# Altium footprint library BitCoin.PcbLib: 3 footprints
Each footprint in its own frame and in the unit in brackets; x right, y up, seen from the top. Pads: shape width x height; smd on the part's side, far side on the other; paste and mask are expansions set on the pad; w line width, h text height; cw(c..) or ccw(c..) is an arc to the next point about the centre after c.
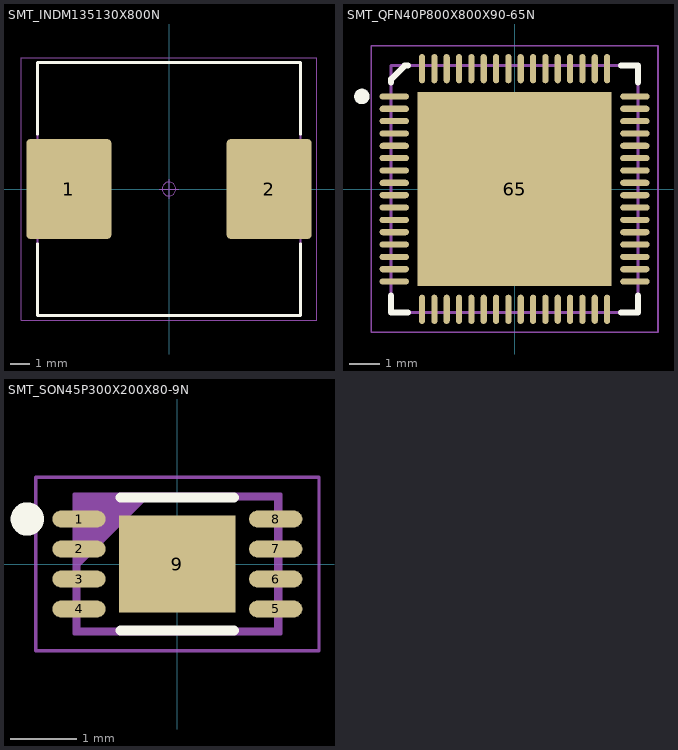
[diagram p0: the footprints below, top view; thin cyan lines are the x and y axes]

## SMT_INDM135130X800N [mm]
height 8
pads (2):
  rrect9% 4.35x5.1 smd mask+0.075: 1(-5.125,0) 2(5.125,0)
Top Overlay:
  lines w0.15: -6.725,-2.8 -6.725,-6.475 6.725,-6.475 6.725,-2.8 ; -6.725,2.8 -6.725,6.475 6.725,6.475 6.725,2.8
Top Assy:
  lines w0.1: -6.725,-6.475 -6.725,6.475 6.725,6.475 6.725,-6.475 -6.725,-6.475
  text ".Designator" at 0,0 h1
Top 3D:
  lines w0.05: -6.73,-6.475 -6.73,6.475 6.73,6.475 6.73,-6.475 -6.73,-6.475
Top Cortyards:
  circle w0.05: c0,0 r0.35
  lines w0.05: -0.5,0 0.5,0 ; 0,-0.5 0,0.5 ; -7.55,-6.725 -7.55,6.725 7.55,6.725 7.55,-6.725 -7.55,-6.725
3D body: height 8, standoff 0, extent -6.26,-6.25 6.26,6.25

## SMT_QFN40P800X800X90-65N [mm]
height 0.9
pads (65):
  oval 0.95x0.2 smd mask+0.05: 1(-3.9,3) 2(-3.9,2.6) 3(-3.9,2.2) 4(-3.9,1.8) 5(-3.9,1.4) 6(-3.9,1) 7(-3.9,0.6) 8(-3.9,0.2) 9(-3.9,-0.2) 10(-3.9,-0.6) 11(-3.9,-1) 12(-3.9,-1.4) 13(-3.9,-1.8) 14(-3.9,-2.2) 15(-3.9,-2.6) 16(-3.9,-3) 33(3.9,-3) 34(3.9,-2.6) 35(3.9,-2.2) 36(3.9,-1.8) 37(3.9,-1.4) 38(3.9,-1) 39(3.9,-0.6) 40(3.9,-0.2) 41(3.9,0.2) 42(3.9,0.6) 43(3.9,1) 44(3.9,1.4) 45(3.9,1.8) 46(3.9,2.2) 47(3.9,2.6) 48(3.9,3)
  oval 0.2x0.95 smd mask+0.05: 17(-3,-3.9) 18(-2.6,-3.9) 19(-2.2,-3.9) 20(-1.8,-3.9) 21(-1.4,-3.9) 22(-1,-3.9) 23(-0.6,-3.9) 24(-0.2,-3.9) 25(0.2,-3.9) 26(0.6,-3.9) 27(1,-3.9) 28(1.4,-3.9) 29(1.8,-3.9) 30(2.2,-3.9) 31(2.6,-3.9) 32(3,-3.9) 49(3,3.9) 50(2.6,3.9) 51(2.2,3.9) 52(1.8,3.9) 53(1.4,3.9) 54(1,3.9) 55(0.6,3.9) 56(0.2,3.9) 57(-0.2,3.9) 58(-0.6,3.9) 59(-1,3.9) 60(-1.4,3.9) 61(-1.8,3.9) 62(-2.2,3.9) 63(-2.6,3.9) 64(-3,3.9)
  rect 6.3x6.3 smd paste-6.3: 65(0,0)
Top Overlay:
  circle w0.25: c-4.95,3 r0.125
  lines w0.2: -4,-3.45 -4,-4 -3.45,-4 ; -4,3.45 -4,3.56 -3.56,4 -3.45,4 ; 3.45,-4 4,-4 4,-3.45 ; 3.45,4 4,4 4,3.45
Top Paste:
  region: 0.31,0.31 0.31,2.53 2.53,2.53 2.53,0.31
  region: -2.53,0.31 -2.53,2.53 -0.31,2.53 -0.31,0.31
  region: 0.31,-2.53 0.31,-0.31 2.53,-0.31 2.53,-2.53
  region: -2.53,-2.53 -2.53,-0.31 -0.31,-0.31 -0.31,-2.53
Top Assy:
  circle w0.1: c-2.425,2.425 r0.5
  lines w0.1: -4,-4 4,-4 4,4 -4,4 -4,-4
  text ".Designator" at 0,0 h1
Top 3D:
  lines w0.05: -4,-4 4,-4 4,4 -4,4 -4,-4
Top Cortyards:
  circle w0.05: c0,0 r0.35
  lines w0.05: -0.5,0 0.5,0 ; 0,-0.5 0,0.5 ; -4.65,-4.65 4.65,-4.65 4.65,4.65 -4.65,4.65 -4.65,-4.65
3D body: height 0.9, standoff 0, extent -3.999,-3.999 3.999,3.999

## SMT_SON45P300X200X80-9N [mm]
height 0.8
pads (9):
  oval 0.8x0.25 smd mask+0.05: 1(-1.475,0.675) 2(-1.475,0.225) 3(-1.475,-0.225) 4(-1.475,-0.675) 5(1.475,-0.675) 6(1.475,-0.225) 7(1.475,0.225) 8(1.475,0.675)
  rect 1.75x1.45 smd paste-0.23 mask+0.075: 9(0,0)
Top Overlay:
  circle w0.25: c-2.25,0.675 r0.125
  lines w0.15: -0.85,-1 0.85,-1 ; -0.85,1 0.85,1
Top Assy:
  lines w0.1: -1.5,0 -0.5,1 ; -1.5,0.1 -0.6,1 ; -1.5,0.2 -0.7,1 ; -1.5,0.3 -0.8,1 ; -1.5,0.4 -0.9,1 ; -1.5,0.5 -1,1 ; -1.5,0.6 -1.1,1 ; -1.5,0.7 -1.2,1 ; -1.5,0.8 -1.3,1 ; -1.5,0.9 -1.4,1 ; -1.5,-1 -1.5,1 1.5,1 1.5,-1 -1.5,-1
  text ".Designator" at 0,0 h1
Top 3D:
  lines w0.05: -1.55,-1.05 -1.55,1.05 1.55,1.05 1.55,-1.05 -1.55,-1.05
Top Cortyards:
  circle w0.05: c0,0 r0.35
  lines w0.05: -0.5,0 0.5,0 ; 0,-0.5 0,0.5 ; -2.125,-1.3 -2.125,1.3 2.125,1.3 2.125,-1.3 -2.125,-1.3
3D body: height 0.8, standoff 0, extent -1.549,-1.049 1.549,1.049